# Altium schematic symbol library NFC_Business_Card.SchLib: 9 symbols
Pins are listed as number, name and electrical type; pins without a type are passive.

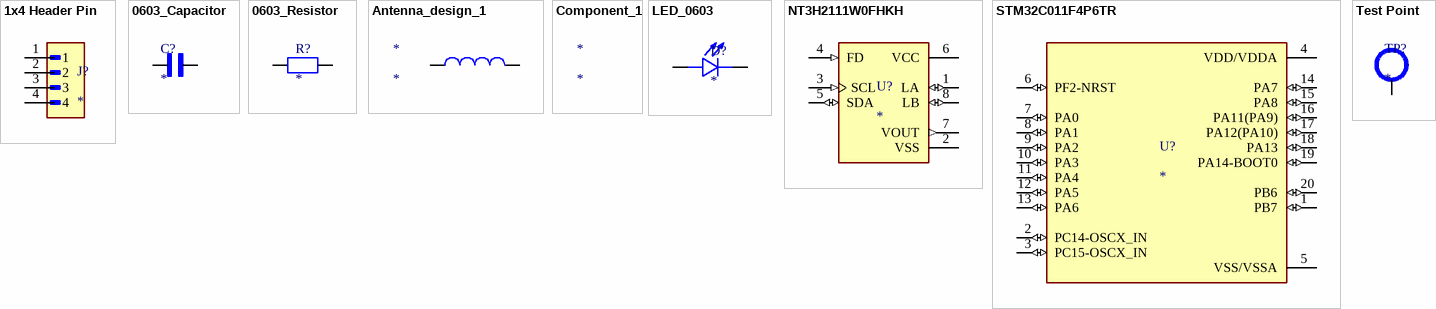
[diagram p0: symbols 1x4 Header Pin to Test Point]

## 1x4 Header Pin
designator J?
2.54mm (0.1) Pitch SIL Vertical Throughboard Pin Header, 7mm mating pin height, tin, 4 contacts; MF: Harwin; MP: M20-9730446; SnapEDA_Link: https://www.snapeda.com/parts/M20-9730446/Harwin/view-part/?ref=snap; Package: None; Value: *; Check_prices: https://www.snapeda.com/parts/M20-9730446/Harwin/view-part/?ref=eda
footprint HARWIN_M20-9730446
footprint 1x4 Jumper
pins: 1, 2, 3, 4

## 0603_Capacitor
designator C?
footprint 0603 PACKAGE
pins: 1, 2

## 0603_Resistor
designator R?
footprint 0603 PACKAGE
pins: 1, 2

## Antenna_design_1
designator *
footprint ANTENNA_DESIGN2
pins: 1, 2

## Component_1
designator *

## LED_0603
designator D?
Red 0603 Light Emitting Diodes; MF: Hubei KENTO Elec; MP: KT-0603R; SnapEDA_Link: https://www.snapeda.com/parts/KT-0603R/Hubei+KENTO+Elec/view-part/?ref=snap; Package: Package; Value: *; Check_prices: https://www.snapeda.com/parts/KT-0603R/Hubei+KENTO+Elec/view-part/?ref=eda
footprint LED_KT-0603R
footprint LED_KT-0603R
pins: A, C

## NT3H2111W0FHKH
designator U?
RFID Reader/Transponder IC 13.56MHz ISO 14443, NFC IÂ²C 1.67V ~ 3.6V 8-XFQFN Exposed Pad; MF: NXP USA; MP: NT3H2111W0FHKH; SnapEDA_Link: https://www.snapeda.com/parts/NT3H2111W0FHKH/NXP+Semiconductors/view-part/?ref=snap; Package: Package; Value: *; Check_prices: https://www.snapeda.com/parts/NT3H2111W0FHKH/NXP+Semiconductors/view-part/?ref=eda
footprint QFN8P50_160X160X50L40X20N
pins: 1 LA (io), 2 VSS (power), 3 SCL (in), 4 FD (in), 5 SDA (io), 6 VCC (power), 7 VOUT (out), 8 LB (io)

## STM32C011F4P6TR
designator U?
ARMÂ® CortexÂ®-M0+ STM32C0 Microcontroller IC 32-Bit 48MHz 16KB (16K x 8) FLASH 20-TSSOP; MF: STMicroelectronics; MP: STM32C011F4P6TR; SnapEDA_Link: https://www.snapeda.com/parts/STM32C011F4P6TR/STMicroelectronics/view-part/?ref=snap; Package: None; Value: *; Check_prices: https://www.snapeda.com/parts/STM32C011F4P6TR/STMicroelectronics/view-part/?ref=eda
footprint SOP65P640X120-20N
pins: 1 PB7 (io), 2 PC14-OSCX_IN (io), 3 PC15-OSCX_IN (io), 4 VDD/VDDA (power), 5 VSS/VSSA (power), 6 PF2-NRST (io), 7 PA0 (io), 8 PA1 (io), 9 PA2 (io), 10 PA3 (io), 11 PA4 (io), 12 PA5 (io), 13 PA6 (io), 14 PA7 (io), 15 PA8 (io), 16 PA11(PA9) (io), 17 PA12(PA10) (io), 18 PA13 (io), 19 PA14-BOOT0 (io), 20 PB6 (io)

## Test Point
designator TP?
footprint Test Point
pins: 1